# Altium footprint library Radial Inductors.PcbLib: 2 footprints
Each footprint in its own frame and in the unit in brackets; x right, y up, seen from the top. Pads: shape width x height; smd on the part's side, far side on the other; paste and mask are expansions set on the pad; w line width, h text height; cw(c..) or ccw(c..) is an arc to the next point about the centre after c.
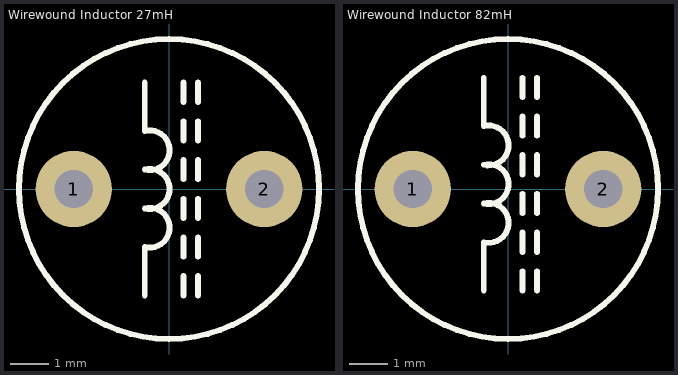
[diagram p0: the footprints below, top view; thin cyan lines are the x and y axes]

## Wirewound Inductor 27mH [mm] "27mH Unshielded Wirewound Inductor 100mA 82.7 Ohm Max Radial"
pads (2):
  round 2 hole 1: 1(-2.5,0) 2(2.5,0)
Top Overlay:
  circle w0.152: c0,0 r3.937
  lines w0.152: -0.635,-2.794 -0.635,-1.524 ccw(c-0.508,-1.016) -0.635,-0.508 ccw(c-0.508,0) -0.635,0.508 ccw(c-0.508,1.016) -0.635,1.524 -0.635,2.794 ; 0.381,-2.794 0.381,-2.286 ; 0.381,-1.778 0.381,-1.27 ; 0.381,-0.762 0.381,-0.254 ; 0.381,0.254 0.381,0.762 ; 0.381,1.27 0.381,1.778 ; 0.381,2.286 0.381,2.794 ; 0.762,-2.794 0.762,-2.286 ; 0.762,-1.778 0.762,-1.27 ; 0.762,-0.762 0.762,-0.254 ; 0.762,0.254 0.762,0.762 ; 0.762,1.27 0.762,1.778 ; 0.762,2.286 0.762,2.794
3D body "Inductor Radial 27mH.stp": height 9.8, standoff -4.7, extent -5.515,-5.515 5.515,5.515

## Wirewound Inductor 82mH [mm] "82mH Unshielded Wirewound Inductor 40mA 212 Ohm Radial, Vertical Cylinder"
pads (2):
  round 2 hole 1: 1(-2.5,0) 2(2.5,0)
Top Overlay:
  circle w0.152: c0,0 r3.937
  lines w0.152: -0.635,-2.667 -0.635,-1.397 ccw(c-0.508,-0.889) -0.635,-0.381 ccw(c-0.508,0.127) -0.635,0.635 ccw(c-0.508,1.143) -0.635,1.651 -0.635,2.921 ; 0.381,-2.667 0.381,-2.159 ; 0.381,-1.651 0.381,-1.143 ; 0.381,-0.635 0.381,-0.127 ; 0.381,0.381 0.381,0.889 ; 0.381,1.397 0.381,1.905 ; 0.381,2.413 0.381,2.921 ; 0.762,-2.667 0.762,-2.159 ; 0.762,-1.651 0.762,-1.143 ; 0.762,-0.635 0.762,-0.127 ; 0.762,0.381 0.762,0.889 ; 0.762,1.397 0.762,1.905 ; 0.762,2.413 0.762,2.921
3D body "Inductor Radial 27mH.stp": height 9.8, standoff -4.7, extent -5.515,-5.515 5.515,5.515